# EAGLE library part 74HC74 (library IC_Logic)
Dual D flip-flop with Clear and Preset Reference Datasheet <https://www.ti.com/lit/ds/symlink/sn74hc74.pdf?ts=1637643844925&ref_url=https%253A%252F%252Fwww.google.com%252F>
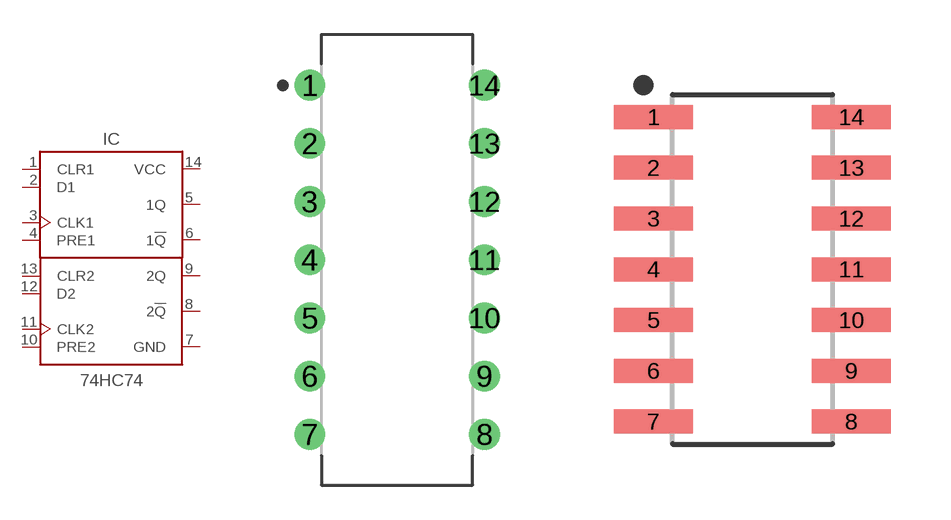
[diagram p12: symbol with the pads of DIP762W53P254L1969H508Q14B; footprints DIP762W53P254L1969H508Q14B, SOIC127P600X175-14N]

Designator prefix IC

## 74HC74_PDIP (CATEGORY: IC_Logic; DESCRIPTION: Dual D flip-flop; MANUFACTURER: Generic; MPN: Generic; SUB-CATEGORY: Flip-flop; TYPE: D; VALUE: 74HC74)  [DIP762W53P254L1969H508Q14B]
1  CLR1  in
2  D1  in
3  CLK1  in
4  PRE1  in
5  1Q  out
6  1!Q  out
7  GND
8  2!Q  out
9  2Q  out
10  PRE2  in
11  CLK2  in
12  D2  in
13  CLR2  in
14  VCC

## 74HC74_SOIC (CATEGORY: IC_Logic; DESCRIPTION: Dual D flip-flop; MANUFACTURER: Generic; MPN: Generic; SUB-CATEGORY: Flip-flop; TYPE: D; VALUE: 74HC74)  [SOIC127P600X175-14N]
Pads as for DIP762W53P254L1969H508Q14B

## Footprint DIP762W53P254L1969H508Q14B (pad centres in mm)
14-DIP, 2.54 mm (0.10 in) pitch, 7.62 mm (0.30 in) span, 19.69 X 6.35 X 5.08 mm body 14-pin DIP package with 2.54 mm (0.10 in) pitch, 7.62 mm (0.30 in) span with body size 19.69 X 6.35 X 5.08 mm
drill 0.743 pad 1.343: 1 -3.81,7.62; 2 -3.81,5.08; 3 -3.81,2.54; 4 -3.81,0; 5 -3.81,-2.54; 6 -3.81,-5.08; 7 -3.81,-7.62; 8 3.81,-7.62; 9 3.81,-5.08; 10 3.81,-2.54; 11 3.81,0; 12 3.81,2.54; 13 3.81,5.08; 14 3.81,7.62

## Footprint SOIC127P600X175-14N (pad centres in mm)
14-SOIC, 1.27 mm pitch, 6.00 mm span, 8.65 X 3.90 X 1.75 mm body 14-pin SOIC package with 1.27 mm pitch, 6.00 mm span with body size 8.65 X 3.90 X 1.75 mm
smd 1.968 x 0.599: 1 -2.473,3.81; 2 -2.473,2.54; 3 -2.473,1.27; 4 -2.473,0; 5 -2.473,-1.27; 6 -2.473,-2.54; 7 -2.473,-3.81; 8 2.473,-3.81; 9 2.473,-2.54; 10 2.473,-1.27; 11 2.473,0; 12 2.473,1.27; 13 2.473,2.54; 14 2.473,3.81